# Altium footprint library BGA (1.27mm Pitch, Square4).PcbLib: 21 footprints (part 3 of 6)
Each footprint in its own frame and in the unit in brackets; x right, y up, seen from the top. Pads: shape width x height; smd on the part's side, far side on the other; paste and mask are expansions set on the pad; w line width, h text height; cw(c..) or ccw(c..) is an arc to the next point about the centre after c.
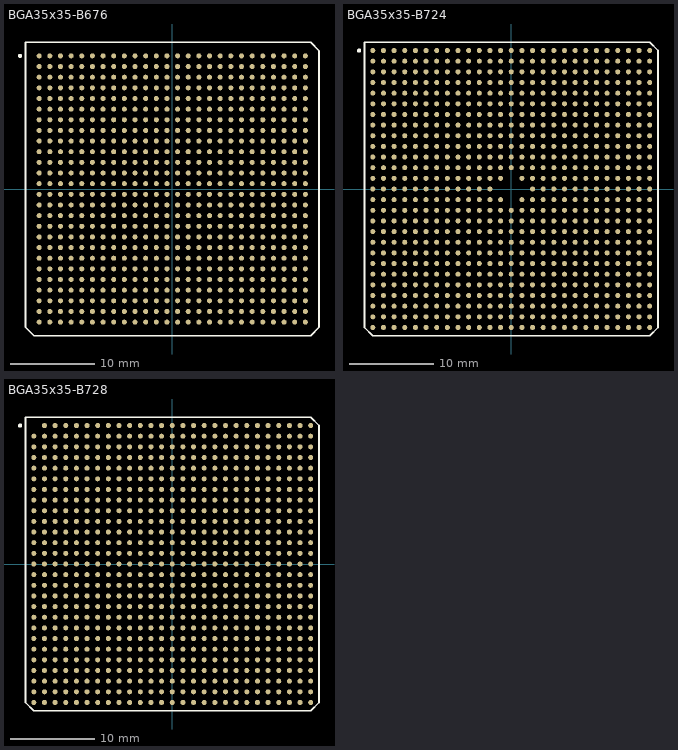
[diagram p2: the footprints below, top view; thin cyan lines are the x and y axes]

## BGA35x35-B676 [mm] "BGA; 676 Balls; Body 35 x 35 mm; Pitch 1.27 mm"
height 3.5
pads (676):
  round 0.6 smd: A1(-15.875,15.875) A2(-14.605,15.875) A3(-13.335,15.875) A4(-12.065,15.875) A5(-10.795,15.875) A6(-9.525,15.875) A7(-8.255,15.875) A8(-6.985,15.875) A9(-5.715,15.875) A10(-4.445,15.875) A11(-3.175,15.875) A12(-1.905,15.875) A13(-0.635,15.875) A14(0.635,15.875) A15(1.905,15.875) A16(3.175,15.875) A17(4.445,15.875) A18(5.715,15.875) A19(6.985,15.875) A20(8.255,15.875) A21(9.525,15.875) A22(10.795,15.875) A23(12.065,15.875) A24(13.335,15.875) A25(14.605,15.875) A26(15.875,15.875) AA1(-15.875,-9.525) AA2(-14.605,-9.525) AA3(-13.335,-9.525) AA4(-12.065,-9.525) AA5(-10.795,-9.525) AA6(-9.525,-9.525) AA7(-8.255,-9.525) AA8(-6.985,-9.525) AA9(-5.715,-9.525) AA10(-4.445,-9.525) AA11(-3.175,-9.525) AA12(-1.905,-9.525) AA13(-0.635,-9.525) AA14(0.635,-9.525) AA15(1.905,-9.525) AA16(3.175,-9.525) AA17(4.445,-9.525) AA18(5.715,-9.525) AA19(6.985,-9.525) AA20(8.255,-9.525) AA21(9.525,-9.525) AA22(10.795,-9.525) AA23(12.065,-9.525) AA24(13.335,-9.525) AA25(14.605,-9.525) AA26(15.875,-9.525) AB1(-15.875,-10.795) AB2(-14.605,-10.795) AB3(-13.335,-10.795) AB4(-12.065,-10.795) AB5(-10.795,-10.795) AB6(-9.525,-10.795) AB7(-8.255,-10.795) AB8(-6.985,-10.795) AB9(-5.715,-10.795) AB10(-4.445,-10.795) AB11(-3.175,-10.795) AB12(-1.905,-10.795) AB13(-0.635,-10.795) AB14(0.635,-10.795) AB15(1.905,-10.795) AB16(3.175,-10.795) AB17(4.445,-10.795) AB18(5.715,-10.795) AB19(6.985,-10.795) AB20(8.255,-10.795) AB21(9.525,-10.795) AB22(10.795,-10.795) AB23(12.065,-10.795) AB24(13.335,-10.795) AB25(14.605,-10.795) AB26(15.875,-10.795) AC1(-15.875,-12.065) AC2(-14.605,-12.065) AC3(-13.335,-12.065) AC4(-12.065,-12.065) AC5(-10.795,-12.065) AC6(-9.525,-12.065) AC7(-8.255,-12.065) AC8(-6.985,-12.065) AC9(-5.715,-12.065) AC10(-4.445,-12.065) AC11(-3.175,-12.065) AC12(-1.905,-12.065) AC13(-0.635,-12.065) AC14(0.635,-12.065) AC15(1.905,-12.065) AC16(3.175,-12.065) AC17(4.445,-12.065) AC18(5.715,-12.065) AC19(6.985,-12.065) AC20(8.255,-12.065) AC21(9.525,-12.065) AC22(10.795,-12.065) AC23(12.065,-12.065) AC24(13.335,-12.065) AC25(14.605,-12.065) AC26(15.875,-12.065) AD1(-15.875,-13.335) AD2(-14.605,-13.335) AD3(-13.335,-13.335) AD4(-12.065,-13.335) AD5(-10.795,-13.335) AD6(-9.525,-13.335) AD7(-8.255,-13.335) AD8(-6.985,-13.335) AD9(-5.715,-13.335) AD10(-4.445,-13.335) AD11(-3.175,-13.335) AD12(-1.905,-13.335) AD13(-0.635,-13.335) AD14(0.635,-13.335) AD15(1.905,-13.335) AD16(3.175,-13.335) AD17(4.445,-13.335) AD18(5.715,-13.335) AD19(6.985,-13.335) AD20(8.255,-13.335) AD21(9.525,-13.335) AD22(10.795,-13.335) AD23(12.065,-13.335) AD24(13.335,-13.335) AD25(14.605,-13.335) AD26(15.875,-13.335) AE1(-15.875,-14.605) AE2(-14.605,-14.605) AE3(-13.335,-14.605) AE4(-12.065,-14.605) AE5(-10.795,-14.605) AE6(-9.525,-14.605) AE7(-8.255,-14.605) AE8(-6.985,-14.605) AE9(-5.715,-14.605) AE10(-4.445,-14.605) AE11(-3.175,-14.605) AE12(-1.905,-14.605) AE13(-0.635,-14.605) AE14(0.635,-14.605) AE15(1.905,-14.605) AE16(3.175,-14.605) AE17(4.445,-14.605) AE18(5.715,-14.605) AE19(6.985,-14.605) AE20(8.255,-14.605) AE21(9.525,-14.605) AE22(10.795,-14.605) AE23(12.065,-14.605) AE24(13.335,-14.605) AE25(14.605,-14.605) AE26(15.875,-14.605) AF1(-15.875,-15.875) AF2(-14.605,-15.875) AF3(-13.335,-15.875) AF4(-12.065,-15.875) AF5(-10.795,-15.875) AF6(-9.525,-15.875) AF7(-8.255,-15.875) AF8(-6.985,-15.875) AF9(-5.715,-15.875) AF10(-4.445,-15.875) AF11(-3.175,-15.875) AF12(-1.905,-15.875) AF13(-0.635,-15.875) AF14(0.635,-15.875) AF15(1.905,-15.875) AF16(3.175,-15.875) AF17(4.445,-15.875) AF18(5.715,-15.875) AF19(6.985,-15.875) AF20(8.255,-15.875) AF21(9.525,-15.875) AF22(10.795,-15.875) AF23(12.065,-15.875) AF24(13.335,-15.875) AF25(14.605,-15.875) AF26(15.875,-15.875) B1(-15.875,14.605) B2(-14.605,14.605) B3(-13.335,14.605) B4(-12.065,14.605) B5(-10.795,14.605) B6(-9.525,14.605) B7(-8.255,14.605) B8(-6.985,14.605) B9(-5.715,14.605) B10(-4.445,14.605) B11(-3.175,14.605) B12(-1.905,14.605) B13(-0.635,14.605) B14(0.635,14.605) B15(1.905,14.605) B16(3.175,14.605) B17(4.445,14.605) B18(5.715,14.605) B19(6.985,14.605) B20(8.255,14.605) B21(9.525,14.605) B22(10.795,14.605) B23(12.065,14.605) B24(13.335,14.605) B25(14.605,14.605) B26(15.875,14.605) C1(-15.875,13.335) C2(-14.605,13.335) C3(-13.335,13.335) C4(-12.065,13.335) C5(-10.795,13.335) C6(-9.525,13.335) C7(-8.255,13.335) C8(-6.985,13.335) C9(-5.715,13.335) C10(-4.445,13.335) C11(-3.175,13.335) C12(-1.905,13.335) C13(-0.635,13.335) C14(0.635,13.335) C15(1.905,13.335) C16(3.175,13.335) C17(4.445,13.335) C18(5.715,13.335) C19(6.985,13.335) C20(8.255,13.335) C21(9.525,13.335) C22(10.795,13.335) C23(12.065,13.335) C24(13.335,13.335) C25(14.605,13.335) C26(15.875,13.335) D1(-15.875,12.065) D2(-14.605,12.065) D3(-13.335,12.065) D4(-12.065,12.065) D5(-10.795,12.065) D6(-9.525,12.065) D7(-8.255,12.065) D8(-6.985,12.065) D9(-5.715,12.065) D10(-4.445,12.065) D11(-3.175,12.065) D12(-1.905,12.065) D13(-0.635,12.065) D14(0.635,12.065) D15(1.905,12.065) D16(3.175,12.065) D17(4.445,12.065) D18(5.715,12.065) D19(6.985,12.065) D20(8.255,12.065) D21(9.525,12.065) D22(10.795,12.065) D23(12.065,12.065) D24(13.335,12.065) D25(14.605,12.065) D26(15.875,12.065) E1(-15.875,10.795) E2(-14.605,10.795) E3(-13.335,10.795) E4(-12.065,10.795) E5(-10.795,10.795) E6(-9.525,10.795) E7(-8.255,10.795) E8(-6.985,10.795) E9(-5.715,10.795) E10(-4.445,10.795) E11(-3.175,10.795) E12(-1.905,10.795) E13(-0.635,10.795) E14(0.635,10.795) E15(1.905,10.795) E16(3.175,10.795) E17(4.445,10.795) E18(5.715,10.795) E19(6.985,10.795) E20(8.255,10.795) E21(9.525,10.795) E22(10.795,10.795) E23(12.065,10.795) E24(13.335,10.795) E25(14.605,10.795) E26(15.875,10.795) F1(-15.875,9.525) F2(-14.605,9.525) F3(-13.335,9.525) F4(-12.065,9.525) F5(-10.795,9.525) F6(-9.525,9.525) F7(-8.255,9.525) F8(-6.985,9.525) F9(-5.715,9.525) F10(-4.445,9.525) F11(-3.175,9.525) F12(-1.905,9.525) F13(-0.635,9.525) F14(0.635,9.525) F15(1.905,9.525) F16(3.175,9.525) F17(4.445,9.525) F18(5.715,9.525) F19(6.985,9.525) F20(8.255,9.525) F21(9.525,9.525) F22(10.795,9.525) F23(12.065,9.525) F24(13.335,9.525) F25(14.605,9.525) F26(15.875,9.525) G1(-15.875,8.255) G2(-14.605,8.255) G3(-13.335,8.255) G4(-12.065,8.255) G5(-10.795,8.255) G6(-9.525,8.255) G7(-8.255,8.255) G8(-6.985,8.255) G9(-5.715,8.255) G10(-4.445,8.255) G11(-3.175,8.255) G12(-1.905,8.255) G13(-0.635,8.255) G14(0.635,8.255) G15(1.905,8.255) G16(3.175,8.255) G17(4.445,8.255) G18(5.715,8.255) G19(6.985,8.255) G20(8.255,8.255) G21(9.525,8.255) G22(10.795,8.255) G23(12.065,8.255) G24(13.335,8.255) G25(14.605,8.255) G26(15.875,8.255) H1(-15.875,6.985) H2(-14.605,6.985) H3(-13.335,6.985) H4(-12.065,6.985) H5(-10.795,6.985) H6(-9.525,6.985) H7(-8.255,6.985) H8(-6.985,6.985) H9(-5.715,6.985) H10(-4.445,6.985) H11(-3.175,6.985) H12(-1.905,6.985) H13(-0.635,6.985) H14(0.635,6.985) H15(1.905,6.985) H16(3.175,6.985) H17(4.445,6.985) H18(5.715,6.985) H19(6.985,6.985) H20(8.255,6.985) H21(9.525,6.985) H22(10.795,6.985) H23(12.065,6.985) H24(13.335,6.985) H25(14.605,6.985) H26(15.875,6.985) J1(-15.875,5.715) J2(-14.605,5.715) J3(-13.335,5.715) J4(-12.065,5.715) J5(-10.795,5.715) J6(-9.525,5.715) J7(-8.255,5.715) J8(-6.985,5.715) J9(-5.715,5.715) J10(-4.445,5.715) J11(-3.175,5.715) J12(-1.905,5.715) J13(-0.635,5.715) J14(0.635,5.715) J15(1.905,5.715) J16(3.175,5.715) J17(4.445,5.715) J18(5.715,5.715) J19(6.985,5.715) J20(8.255,5.715) J21(9.525,5.715) J22(10.795,5.715) J23(12.065,5.715) J24(13.335,5.715) J25(14.605,5.715) J26(15.875,5.715) K1(-15.875,4.445) K2(-14.605,4.445) K3(-13.335,4.445) K4(-12.065,4.445) K5(-10.795,4.445) K6(-9.525,4.445) K7(-8.255,4.445) K8(-6.985,4.445) K9(-5.715,4.445) K10(-4.445,4.445) K11(-3.175,4.445) K12(-1.905,4.445) K13(-0.635,4.445) K14(0.635,4.445) K15(1.905,4.445) K16(3.175,4.445) K17(4.445,4.445) K18(5.715,4.445) K19(6.985,4.445) K20(8.255,4.445) K21(9.525,4.445) K22(10.795,4.445) K23(12.065,4.445) K24(13.335,4.445) K25(14.605,4.445) K26(15.875,4.445) L1(-15.875,3.175) L2(-14.605,3.175) L3(-13.335,3.175) L4(-12.065,3.175) L5(-10.795,3.175) L6(-9.525,3.175) L7(-8.255,3.175) L8(-6.985,3.175) L9(-5.715,3.175) L10(-4.445,3.175) L11(-3.175,3.175) L12(-1.905,3.175) L13(-0.635,3.175) L14(0.635,3.175) L15(1.905,3.175) L16(3.175,3.175) L17(4.445,3.175) L18(5.715,3.175) L19(6.985,3.175) L20(8.255,3.175) L21(9.525,3.175) L22(10.795,3.175) L23(12.065,3.175) L24(13.335,3.175) L25(14.605,3.175) L26(15.875,3.175) M1(-15.875,1.905) M2(-14.605,1.905) M3(-13.335,1.905) M4(-12.065,1.905) M5(-10.795,1.905) M6(-9.525,1.905) M7(-8.255,1.905) M8(-6.985,1.905) M9(-5.715,1.905) M10(-4.445,1.905) M11(-3.175,1.905) M12(-1.905,1.905) M13(-0.635,1.905) M14(0.635,1.905) M15(1.905,1.905) M16(3.175,1.905) M17(4.445,1.905) M18(5.715,1.905) M19(6.985,1.905) M20(8.255,1.905) M21(9.525,1.905) M22(10.795,1.905) M23(12.065,1.905) M24(13.335,1.905) M25(14.605,1.905) M26(15.875,1.905) N1(-15.875,0.635) N2(-14.605,0.635) N3(-13.335,0.635) N4(-12.065,0.635) N5(-10.795,0.635) N6(-9.525,0.635) N7(-8.255,0.635) N8(-6.985,0.635) N9(-5.715,0.635) N10(-4.445,0.635) N11(-3.175,0.635) N12(-1.905,0.635) N13(-0.635,0.635) N14(0.635,0.635) N15(1.905,0.635) N16(3.175,0.635) N17(4.445,0.635) N18(5.715,0.635) N19(6.985,0.635) N20(8.255,0.635) N21(9.525,0.635) N22(10.795,0.635) N23(12.065,0.635) N24(13.335,0.635) N25(14.605,0.635) N26(15.875,0.635) P1(-15.875,-0.635) P2(-14.605,-0.635) P3(-13.335,-0.635) P4(-12.065,-0.635) P5(-10.795,-0.635) P6(-9.525,-0.635) P7(-8.255,-0.635) P8(-6.985,-0.635) P9(-5.715,-0.635) P10(-4.445,-0.635) P11(-3.175,-0.635) P12(-1.905,-0.635) P13(-0.635,-0.635) P14(0.635,-0.635) P15(1.905,-0.635) P16(3.175,-0.635) P17(4.445,-0.635) P18(5.715,-0.635) P19(6.985,-0.635) P20(8.255,-0.635) P21(9.525,-0.635) P22(10.795,-0.635) P23(12.065,-0.635) P24(13.335,-0.635) P25(14.605,-0.635) P26(15.875,-0.635) R1(-15.875,-1.905) R2(-14.605,-1.905) R3(-13.335,-1.905) R4(-12.065,-1.905) R5(-10.795,-1.905) R6(-9.525,-1.905) R7(-8.255,-1.905) R8(-6.985,-1.905) R9(-5.715,-1.905) R10(-4.445,-1.905) R11(-3.175,-1.905) R12(-1.905,-1.905) R13(-0.635,-1.905) R14(0.635,-1.905) R15(1.905,-1.905) R16(3.175,-1.905) R17(4.445,-1.905) R18(5.715,-1.905) R19(6.985,-1.905) R20(8.255,-1.905) R21(9.525,-1.905) R22(10.795,-1.905) R23(12.065,-1.905) R24(13.335,-1.905) R25(14.605,-1.905) R26(15.875,-1.905) T1(-15.875,-3.175) T2(-14.605,-3.175) T3(-13.335,-3.175) T4(-12.065,-3.175) T5(-10.795,-3.175) T6(-9.525,-3.175) T7(-8.255,-3.175) T8(-6.985,-3.175) T9(-5.715,-3.175) T10(-4.445,-3.175) T11(-3.175,-3.175) T12(-1.905,-3.175) T13(-0.635,-3.175) T14(0.635,-3.175) T15(1.905,-3.175) T16(3.175,-3.175) T17(4.445,-3.175) T18(5.715,-3.175) T19(6.985,-3.175) T20(8.255,-3.175) T21(9.525,-3.175) T22(10.795,-3.175) T23(12.065,-3.175) T24(13.335,-3.175) T25(14.605,-3.175) T26(15.875,-3.175) U1(-15.875,-4.445) U2(-14.605,-4.445) U3(-13.335,-4.445) U4(-12.065,-4.445) U5(-10.795,-4.445) U6(-9.525,-4.445) U7(-8.255,-4.445) U8(-6.985,-4.445) U9(-5.715,-4.445) U10(-4.445,-4.445) U11(-3.175,-4.445) U12(-1.905,-4.445) U13(-0.635,-4.445) U14(0.635,-4.445) U15(1.905,-4.445) U16(3.175,-4.445) U17(4.445,-4.445) U18(5.715,-4.445) U19(6.985,-4.445) U20(8.255,-4.445) U21(9.525,-4.445) U22(10.795,-4.445) U23(12.065,-4.445) U24(13.335,-4.445) U25(14.605,-4.445) U26(15.875,-4.445) V1(-15.875,-5.715) V2(-14.605,-5.715) V3(-13.335,-5.715) V4(-12.065,-5.715) V5(-10.795,-5.715) V6(-9.525,-5.715) V7(-8.255,-5.715) V8(-6.985,-5.715) V9(-5.715,-5.715) V10(-4.445,-5.715) V11(-3.175,-5.715) V12(-1.905,-5.715) V13(-0.635,-5.715) V14(0.635,-5.715) V15(1.905,-5.715) V16(3.175,-5.715) V17(4.445,-5.715) V18(5.715,-5.715) V19(6.985,-5.715) V20(8.255,-5.715) V21(9.525,-5.715) V22(10.795,-5.715) V23(12.065,-5.715) V24(13.335,-5.715) V25(14.605,-5.715) V26(15.875,-5.715) W1(-15.875,-6.985) W2(-14.605,-6.985) W3(-13.335,-6.985) W4(-12.065,-6.985) W5(-10.795,-6.985) W6(-9.525,-6.985) W7(-8.255,-6.985) W8(-6.985,-6.985) W9(-5.715,-6.985) W10(-4.445,-6.985) W11(-3.175,-6.985) W12(-1.905,-6.985) W13(-0.635,-6.985) W14(0.635,-6.985) W15(1.905,-6.985) W16(3.175,-6.985) W17(4.445,-6.985) W18(5.715,-6.985) W19(6.985,-6.985) W20(8.255,-6.985) W21(9.525,-6.985) W22(10.795,-6.985) W23(12.065,-6.985) W24(13.335,-6.985) W25(14.605,-6.985) W26(15.875,-6.985) Y1(-15.875,-8.255) Y2(-14.605,-8.255) Y3(-13.335,-8.255) Y4(-12.065,-8.255) Y5(-10.795,-8.255) Y6(-9.525,-8.255) Y7(-8.255,-8.255) Y8(-6.985,-8.255) Y9(-5.715,-8.255) Y10(-4.445,-8.255) Y11(-3.175,-8.255) Y12(-1.905,-8.255) Y13(-0.635,-8.255) Y14(0.635,-8.255) Y15(1.905,-8.255) Y16(3.175,-8.255) Y17(4.445,-8.255) Y18(5.715,-8.255) Y19(6.985,-8.255) Y20(8.255,-8.255) Y21(9.525,-8.255) Y22(10.795,-8.255) Y23(12.065,-8.255) Y24(13.335,-8.255) Y25(14.605,-8.255) Y26(15.875,-8.255)
Top Overlay:
  circle w0.25: c-18.155,15.875 r0.125
  lines w0.2: -17.5,-16.5 -16.5,-17.5 16.5,-17.5 17.5,-16.5 17.5,16.5 16.5,17.5 -17.5,17.5 -17.5,-16.5

## BGA35x35-B724 [mm] "724-Pin Thermally Enhanced Ball-Grid Array (BGA) Cavity Up"
height 3.5
pads (724):
  round 0.6 smd: A1(-16.51,16.51) A2(-15.24,16.51) A3(-13.97,16.51) A4(-12.7,16.51) A5(-11.43,16.51) A6(-10.16,16.51) A7(-8.89,16.51) A8(-7.62,16.51) A9(-6.35,16.51) A10(-5.08,16.51) A11(-3.81,16.51) A12(-2.54,16.51) A13(-1.27,16.51) A14(0,16.51) A15(1.27,16.51) A16(2.54,16.51) A17(3.81,16.51) A18(5.08,16.51) A19(6.35,16.51) A20(7.62,16.51) A21(8.89,16.51) A22(10.16,16.51) A23(11.43,16.51) A24(12.7,16.51) A25(13.97,16.51) A26(15.24,16.51) A27(16.51,16.51) AA1(-16.51,-8.89) AA2(-15.24,-8.89) AA3(-13.97,-8.89) AA4(-12.7,-8.89) AA5(-11.43,-8.89) AA6(-10.16,-8.89) AA7(-8.89,-8.89) AA8(-7.62,-8.89) AA9(-6.35,-8.89) AA10(-5.08,-8.89) AA11(-3.81,-8.89) AA12(-2.54,-8.89) AA13(-1.27,-8.89) AA14(0,-8.89) AA15(1.27,-8.89) AA16(2.54,-8.89) AA17(3.81,-8.89) AA18(5.08,-8.89) AA19(6.35,-8.89) AA20(7.62,-8.89) AA21(8.89,-8.89) AA22(10.16,-8.89) AA23(11.43,-8.89) AA24(12.7,-8.89) AA25(13.97,-8.89) AA26(15.24,-8.89) AA27(16.51,-8.89) AB1(-16.51,-10.16) AB2(-15.24,-10.16) AB3(-13.97,-10.16) AB4(-12.7,-10.16) AB5(-11.43,-10.16) AB6(-10.16,-10.16) AB7(-8.89,-10.16) AB8(-7.62,-10.16) AB9(-6.35,-10.16) AB10(-5.08,-10.16) AB11(-3.81,-10.16) AB12(-2.54,-10.16) AB13(-1.27,-10.16) AB14(0,-10.16) AB15(1.27,-10.16) AB16(2.54,-10.16) AB17(3.81,-10.16) AB18(5.08,-10.16) AB19(6.35,-10.16) AB20(7.62,-10.16) AB21(8.89,-10.16) AB22(10.16,-10.16) AB23(11.43,-10.16) AB24(12.7,-10.16) AB25(13.97,-10.16) AB26(15.24,-10.16) AB27(16.51,-10.16) AC1(-16.51,-11.43) AC2(-15.24,-11.43) AC3(-13.97,-11.43) AC4(-12.7,-11.43) AC5(-11.43,-11.43) AC6(-10.16,-11.43) AC7(-8.89,-11.43) AC8(-7.62,-11.43) AC9(-6.35,-11.43) AC10(-5.08,-11.43) AC11(-3.81,-11.43) AC12(-2.54,-11.43) AC13(-1.27,-11.43) AC14(0,-11.43) AC15(1.27,-11.43) AC16(2.54,-11.43) AC17(3.81,-11.43) AC18(5.08,-11.43) AC19(6.35,-11.43) AC20(7.62,-11.43) AC21(8.89,-11.43) AC22(10.16,-11.43) AC23(11.43,-11.43) AC24(12.7,-11.43) AC25(13.97,-11.43) AC26(15.24,-11.43) AC27(16.51,-11.43) AD1(-16.51,-12.7) AD2(-15.24,-12.7) AD3(-13.97,-12.7) AD4(-12.7,-12.7) AD5(-11.43,-12.7) AD6(-10.16,-12.7) AD7(-8.89,-12.7) AD8(-7.62,-12.7) AD9(-6.35,-12.7) AD10(-5.08,-12.7) AD11(-3.81,-12.7) AD12(-2.54,-12.7) AD13(-1.27,-12.7) AD14(0,-12.7) AD15(1.27,-12.7) AD16(2.54,-12.7) AD17(3.81,-12.7) AD18(5.08,-12.7) AD19(6.35,-12.7) AD20(7.62,-12.7) AD21(8.89,-12.7) AD22(10.16,-12.7) AD23(11.43,-12.7) AD24(12.7,-12.7) AD25(13.97,-12.7) AD26(15.24,-12.7) AD27(16.51,-12.7) AE1(-16.51,-13.97) AE2(-15.24,-13.97) AE3(-13.97,-13.97) AE4(-12.7,-13.97) AE5(-11.43,-13.97) AE6(-10.16,-13.97) AE7(-8.89,-13.97) AE8(-7.62,-13.97) AE9(-6.35,-13.97) AE10(-5.08,-13.97) AE11(-3.81,-13.97) AE12(-2.54,-13.97) AE13(-1.27,-13.97) AE14(0,-13.97) AE15(1.27,-13.97) AE16(2.54,-13.97) AE17(3.81,-13.97) AE18(5.08,-13.97) AE19(6.35,-13.97) AE20(7.62,-13.97) AE21(8.89,-13.97) AE22(10.16,-13.97) AE23(11.43,-13.97) AE24(12.7,-13.97) AE25(13.97,-13.97) AE26(15.24,-13.97) AE27(16.51,-13.97) AF1(-16.51,-15.24) AF2(-15.24,-15.24) AF3(-13.97,-15.24) AF4(-12.7,-15.24) AF5(-11.43,-15.24) AF6(-10.16,-15.24) AF7(-8.89,-15.24) AF8(-7.62,-15.24) AF9(-6.35,-15.24) AF10(-5.08,-15.24) AF11(-3.81,-15.24) AF12(-2.54,-15.24) AF13(-1.27,-15.24) AF14(0,-15.24) AF15(1.27,-15.24) AF16(2.54,-15.24) AF17(3.81,-15.24) AF18(5.08,-15.24) AF19(6.35,-15.24) AF20(7.62,-15.24) AF21(8.89,-15.24) AF22(10.16,-15.24) AF23(11.43,-15.24) AF24(12.7,-15.24) AF25(13.97,-15.24) AF26(15.24,-15.24) AF27(16.51,-15.24) AG1(-16.51,-16.51) AG2(-15.24,-16.51) AG3(-13.97,-16.51) AG4(-12.7,-16.51) AG5(-11.43,-16.51) AG6(-10.16,-16.51) AG7(-8.89,-16.51) AG8(-7.62,-16.51) AG9(-6.35,-16.51) AG10(-5.08,-16.51) AG11(-3.81,-16.51) AG12(-2.54,-16.51) AG13(-1.27,-16.51) AG14(0,-16.51) AG15(1.27,-16.51) AG16(2.54,-16.51) AG17(3.81,-16.51) AG18(5.08,-16.51) AG19(6.35,-16.51) AG20(7.62,-16.51) AG21(8.89,-16.51) AG22(10.16,-16.51) AG23(11.43,-16.51) AG24(12.7,-16.51) AG25(13.97,-16.51) AG26(15.24,-16.51) AG27(16.51,-16.51) B1(-16.51,15.24) B2(-15.24,15.24) B3(-13.97,15.24) B4(-12.7,15.24) B5(-11.43,15.24) B6(-10.16,15.24) B7(-8.89,15.24) B8(-7.62,15.24) B9(-6.35,15.24) B10(-5.08,15.24) B11(-3.81,15.24) B12(-2.54,15.24) B13(-1.27,15.24) B14(0,15.24) B15(1.27,15.24) B16(2.54,15.24) B17(3.81,15.24) B18(5.08,15.24) B19(6.35,15.24) B20(7.62,15.24) B21(8.89,15.24) B22(10.16,15.24) B23(11.43,15.24) B24(12.7,15.24) B25(13.97,15.24) B26(15.24,15.24) B27(16.51,15.24) C1(-16.51,13.97) C2(-15.24,13.97) C3(-13.97,13.97) C4(-12.7,13.97) C5(-11.43,13.97) C6(-10.16,13.97) C7(-8.89,13.97) C8(-7.62,13.97) C9(-6.35,13.97) C10(-5.08,13.97) C11(-3.81,13.97) C12(-2.54,13.97) C13(-1.27,13.97) C14(0,13.97) C15(1.27,13.97) C16(2.54,13.97) C17(3.81,13.97) C18(5.08,13.97) C19(6.35,13.97) C20(7.62,13.97) C21(8.89,13.97) C22(10.16,13.97) C23(11.43,13.97) C24(12.7,13.97) C25(13.97,13.97) C26(15.24,13.97) C27(16.51,13.97) D1(-16.51,12.7) D2(-15.24,12.7) D3(-13.97,12.7) D4(-12.7,12.7) D5(-11.43,12.7) D6(-10.16,12.7) D7(-8.89,12.7) D8(-7.62,12.7) D9(-6.35,12.7) D10(-5.08,12.7) D11(-3.81,12.7) D12(-2.54,12.7) D13(-1.27,12.7) D14(0,12.7) D15(1.27,12.7) D16(2.54,12.7) D17(3.81,12.7) D18(5.08,12.7) D19(6.35,12.7) D20(7.62,12.7) D21(8.89,12.7) D22(10.16,12.7) D23(11.43,12.7) D24(12.7,12.7) D25(13.97,12.7) D26(15.24,12.7) D27(16.51,12.7) E1(-16.51,11.43) E2(-15.24,11.43) E3(-13.97,11.43) E4(-12.7,11.43) E5(-11.43,11.43) E6(-10.16,11.43) E7(-8.89,11.43) E8(-7.62,11.43) E9(-6.35,11.43) E10(-5.08,11.43) E11(-3.81,11.43) E12(-2.54,11.43) E13(-1.27,11.43) E14(0,11.43) E15(1.27,11.43) E16(2.54,11.43) E17(3.81,11.43) E18(5.08,11.43) E19(6.35,11.43) E20(7.62,11.43) E21(8.89,11.43) E22(10.16,11.43) E23(11.43,11.43) E24(12.7,11.43) E25(13.97,11.43) E26(15.24,11.43) E27(16.51,11.43) F1(-16.51,10.16) F2(-15.24,10.16) F3(-13.97,10.16) F4(-12.7,10.16) F5(-11.43,10.16) F6(-10.16,10.16) F7(-8.89,10.16) F8(-7.62,10.16) F9(-6.35,10.16) F10(-5.08,10.16) F11(-3.81,10.16) F12(-2.54,10.16) F13(-1.27,10.16) F14(0,10.16) F15(1.27,10.16) F16(2.54,10.16) F17(3.81,10.16) F18(5.08,10.16) F19(6.35,10.16) F20(7.62,10.16) F21(8.89,10.16) F22(10.16,10.16) F23(11.43,10.16) F24(12.7,10.16) F25(13.97,10.16) F26(15.24,10.16) F27(16.51,10.16) G1(-16.51,8.89) G2(-15.24,8.89) G3(-13.97,8.89) G4(-12.7,8.89) G5(-11.43,8.89) G6(-10.16,8.89) G7(-8.89,8.89) G8(-7.62,8.89) G9(-6.35,8.89) G10(-5.08,8.89) G11(-3.81,8.89) G12(-2.54,8.89) G13(-1.27,8.89) G14(0,8.89) G15(1.27,8.89) G16(2.54,8.89) G17(3.81,8.89) G18(5.08,8.89) G19(6.35,8.89) G20(7.62,8.89) G21(8.89,8.89) G22(10.16,8.89) G23(11.43,8.89) G24(12.7,8.89) G25(13.97,8.89) G26(15.24,8.89) G27(16.51,8.89) H1(-16.51,7.62) H2(-15.24,7.62) H3(-13.97,7.62) H4(-12.7,7.62) H5(-11.43,7.62) H6(-10.16,7.62) H7(-8.89,7.62) H8(-7.62,7.62) H9(-6.35,7.62) H10(-5.08,7.62) H11(-3.81,7.62) H12(-2.54,7.62) H13(-1.27,7.62) H14(0,7.62) H15(1.27,7.62) H16(2.54,7.62) H17(3.81,7.62) H18(5.08,7.62) H19(6.35,7.62) H20(7.62,7.62) H21(8.89,7.62) H22(10.16,7.62) H23(11.43,7.62) H24(12.7,7.62) H25(13.97,7.62) H26(15.24,7.62) H27(16.51,7.62) J1(-16.51,6.35) J2(-15.24,6.35) J3(-13.97,6.35) J4(-12.7,6.35) J5(-11.43,6.35) J6(-10.16,6.35) J7(-8.89,6.35) J8(-7.62,6.35) J9(-6.35,6.35) J10(-5.08,6.35) J11(-3.81,6.35) J12(-2.54,6.35) J13(-1.27,6.35) J14(0,6.35) J15(1.27,6.35) J16(2.54,6.35) J17(3.81,6.35) J18(5.08,6.35) J19(6.35,6.35) J20(7.62,6.35) J21(8.89,6.35) J22(10.16,6.35) J23(11.43,6.35) J24(12.7,6.35) J25(13.97,6.35) J26(15.24,6.35) J27(16.51,6.35) K1(-16.51,5.08) K2(-15.24,5.08) K3(-13.97,5.08) K4(-12.7,5.08) K5(-11.43,5.08) K6(-10.16,5.08) K7(-8.89,5.08) K8(-7.62,5.08) K9(-6.35,5.08) K10(-5.08,5.08) K11(-3.81,5.08) K12(-2.54,5.08) K13(-1.27,5.08) K14(0,5.08) K15(1.27,5.08) K16(2.54,5.08) K17(3.81,5.08) K18(5.08,5.08) K19(6.35,5.08) K20(7.62,5.08) K21(8.89,5.08) K22(10.16,5.08) K23(11.43,5.08) K24(12.7,5.08) K25(13.97,5.08) K26(15.24,5.08) K27(16.51,5.08) L1(-16.51,3.81) L2(-15.24,3.81) L3(-13.97,3.81) L4(-12.7,3.81) L5(-11.43,3.81) L6(-10.16,3.81) L7(-8.89,3.81) L8(-7.62,3.81) L9(-6.35,3.81) L10(-5.08,3.81) L11(-3.81,3.81) L12(-2.54,3.81) L13(-1.27,3.81) L14(0,3.81) L15(1.27,3.81) L16(2.54,3.81) L17(3.81,3.81) L18(5.08,3.81) L19(6.35,3.81) L20(7.62,3.81) L21(8.89,3.81) L22(10.16,3.81) L23(11.43,3.81) L24(12.7,3.81) L25(13.97,3.81) L26(15.24,3.81) L27(16.51,3.81) M1(-16.51,2.54) M2(-15.24,2.54) M3(-13.97,2.54) M4(-12.7,2.54) M5(-11.43,2.54) M6(-10.16,2.54) M7(-8.89,2.54) M8(-7.62,2.54) M9(-6.35,2.54) M10(-5.08,2.54) M11(-3.81,2.54) M12(-2.54,2.54) M13(-1.27,2.54) M14(0,2.54) M15(1.27,2.54) M16(2.54,2.54) M17(3.81,2.54) M18(5.08,2.54) M19(6.35,2.54) M20(7.62,2.54) M21(8.89,2.54) M22(10.16,2.54) M23(11.43,2.54) M24(12.7,2.54) M25(13.97,2.54) M26(15.24,2.54) M27(16.51,2.54) N1(-16.51,1.27) N2(-15.24,1.27) N3(-13.97,1.27) N4(-12.7,1.27) N5(-11.43,1.27) N6(-10.16,1.27) N7(-8.89,1.27) N8(-7.62,1.27) N9(-6.35,1.27) N10(-5.08,1.27) N11(-3.81,1.27) N12(-2.54,1.27) N13(-1.27,1.27) N15(1.27,1.27) N16(2.54,1.27) N17(3.81,1.27) N18(5.08,1.27) N19(6.35,1.27) N20(7.62,1.27) N21(8.89,1.27) N22(10.16,1.27) N23(11.43,1.27) N24(12.7,1.27) N25(13.97,1.27) N26(15.24,1.27) N27(16.51,1.27) P1(-16.51,0) P2(-15.24,0) P3(-13.97,0) P4(-12.7,0) P5(-11.43,0) P6(-10.16,0) P7(-8.89,0) P8(-7.62,0) P9(-6.35,0) P10(-5.08,0) P11(-3.81,0) P12(-2.54,0) P16(2.54,0) P17(3.81,0) P18(5.08,0) P19(6.35,0) P20(7.62,0) P21(8.89,0) P22(10.16,0) P23(11.43,0) P24(12.7,0) P25(13.97,0) P26(15.24,0) P27(16.51,0) R1(-16.51,-1.27) R2(-15.24,-1.27) R3(-13.97,-1.27) R4(-12.7,-1.27) R5(-11.43,-1.27) R6(-10.16,-1.27) R7(-8.89,-1.27) R8(-7.62,-1.27) R9(-6.35,-1.27) R10(-5.08,-1.27) R11(-3.81,-1.27) R12(-2.54,-1.27) R13(-1.27,-1.27) R15(1.27,-1.27) R16(2.54,-1.27) R17(3.81,-1.27) R18(5.08,-1.27) R19(6.35,-1.27) R20(7.62,-1.27) R21(8.89,-1.27) R22(10.16,-1.27) R23(11.43,-1.27) R24(12.7,-1.27) R25(13.97,-1.27) R26(15.24,-1.27) R27(16.51,-1.27) T1(-16.51,-2.54) T2(-15.24,-2.54) T3(-13.97,-2.54) T4(-12.7,-2.54) T5(-11.43,-2.54) T6(-10.16,-2.54) T7(-8.89,-2.54) T8(-7.62,-2.54) T9(-6.35,-2.54) T10(-5.08,-2.54) T11(-3.81,-2.54) T12(-2.54,-2.54) T13(-1.27,-2.54) T14(0,-2.54) T15(1.27,-2.54) T16(2.54,-2.54) T17(3.81,-2.54) T18(5.08,-2.54) T19(6.35,-2.54) T20(7.62,-2.54) T21(8.89,-2.54) T22(10.16,-2.54) T23(11.43,-2.54) T24(12.7,-2.54) T25(13.97,-2.54) T26(15.24,-2.54) T27(16.51,-2.54) U1(-16.51,-3.81) U2(-15.24,-3.81) U3(-13.97,-3.81) U4(-12.7,-3.81) U5(-11.43,-3.81) U6(-10.16,-3.81) U7(-8.89,-3.81) U8(-7.62,-3.81) U9(-6.35,-3.81) U10(-5.08,-3.81) U11(-3.81,-3.81) U12(-2.54,-3.81) U13(-1.27,-3.81) U14(0,-3.81) U15(1.27,-3.81) U16(2.54,-3.81) U17(3.81,-3.81) U18(5.08,-3.81) U19(6.35,-3.81) U20(7.62,-3.81) U21(8.89,-3.81) U22(10.16,-3.81) U23(11.43,-3.81) U24(12.7,-3.81) U25(13.97,-3.81) U26(15.24,-3.81) U27(16.51,-3.81) V1(-16.51,-5.08) V2(-15.24,-5.08) V3(-13.97,-5.08) V4(-12.7,-5.08) V5(-11.43,-5.08) V6(-10.16,-5.08) V7(-8.89,-5.08) V8(-7.62,-5.08) V9(-6.35,-5.08) V10(-5.08,-5.08) V11(-3.81,-5.08) V12(-2.54,-5.08) V13(-1.27,-5.08) V14(0,-5.08) V15(1.27,-5.08) V16(2.54,-5.08) V17(3.81,-5.08) V18(5.08,-5.08) V19(6.35,-5.08) V20(7.62,-5.08) V21(8.89,-5.08) V22(10.16,-5.08) V23(11.43,-5.08) V24(12.7,-5.08) V25(13.97,-5.08) V26(15.24,-5.08) V27(16.51,-5.08) W1(-16.51,-6.35) W2(-15.24,-6.35) W3(-13.97,-6.35) W4(-12.7,-6.35) W5(-11.43,-6.35) W6(-10.16,-6.35) W7(-8.89,-6.35) W8(-7.62,-6.35) W9(-6.35,-6.35) W10(-5.08,-6.35) W11(-3.81,-6.35) W12(-2.54,-6.35) W13(-1.27,-6.35) W14(0,-6.35) W15(1.27,-6.35) W16(2.54,-6.35) W17(3.81,-6.35) W18(5.08,-6.35) W19(6.35,-6.35) W20(7.62,-6.35) W21(8.89,-6.35) W22(10.16,-6.35) W23(11.43,-6.35) W24(12.7,-6.35) W25(13.97,-6.35) W26(15.24,-6.35) W27(16.51,-6.35) Y1(-16.51,-7.62) Y2(-15.24,-7.62) Y3(-13.97,-7.62) Y4(-12.7,-7.62) Y5(-11.43,-7.62) Y6(-10.16,-7.62) Y7(-8.89,-7.62) Y8(-7.62,-7.62) Y9(-6.35,-7.62) Y10(-5.08,-7.62) Y11(-3.81,-7.62) Y12(-2.54,-7.62) Y13(-1.27,-7.62) Y14(0,-7.62) Y15(1.27,-7.62) Y16(2.54,-7.62) Y17(3.81,-7.62) Y18(5.08,-7.62) Y19(6.35,-7.62) Y20(7.62,-7.62) Y21(8.89,-7.62) Y22(10.16,-7.62) Y23(11.43,-7.62) Y24(12.7,-7.62) Y25(13.97,-7.62) Y26(15.24,-7.62) Y27(16.51,-7.62)
Top Overlay:
  circle w0.25: c-18.15,16.51 r0.125
  lines w0.2: -17.5,-16.51 -16.51,-17.5 16.51,-17.5 17.5,-16.51 17.5,16.51 16.51,17.5 -17.5,17.5 -17.5,-16.51

## BGA35x35-B728 [mm] "728-Ball Plastic Ball Grid Array (BG728)"
height 2.6
pads (728):
  round 0.6 smd: A2(-15.24,16.51) A3(-13.97,16.51) A4(-12.7,16.51) A5(-11.43,16.51) A6(-10.16,16.51) A7(-8.89,16.51) A8(-7.62,16.51) A9(-6.35,16.51) A10(-5.08,16.51) A11(-3.81,16.51) A12(-2.54,16.51) A13(-1.27,16.51) A14(0,16.51) A15(1.27,16.51) A16(2.54,16.51) A17(3.81,16.51) A18(5.08,16.51) A19(6.35,16.51) A20(7.62,16.51) A21(8.89,16.51) A22(10.16,16.51) A23(11.43,16.51) A24(12.7,16.51) A25(13.97,16.51) A26(15.24,16.51) A27(16.51,16.51) AA1(-16.51,-8.89) AA2(-15.24,-8.89) AA3(-13.97,-8.89) AA4(-12.7,-8.89) AA5(-11.43,-8.89) AA6(-10.16,-8.89) AA7(-8.89,-8.89) AA8(-7.62,-8.89) AA9(-6.35,-8.89) AA10(-5.08,-8.89) AA11(-3.81,-8.89) AA12(-2.54,-8.89) AA13(-1.27,-8.89) AA14(0,-8.89) AA15(1.27,-8.89) AA16(2.54,-8.89) AA17(3.81,-8.89) AA18(5.08,-8.89) AA19(6.35,-8.89) AA20(7.62,-8.89) AA21(8.89,-8.89) AA22(10.16,-8.89) AA23(11.43,-8.89) AA24(12.7,-8.89) AA25(13.97,-8.89) AA26(15.24,-8.89) AA27(16.51,-8.89) AB1(-16.51,-10.16) AB2(-15.24,-10.16) AB3(-13.97,-10.16) AB4(-12.7,-10.16) AB5(-11.43,-10.16) AB6(-10.16,-10.16) AB7(-8.89,-10.16) AB8(-7.62,-10.16) AB9(-6.35,-10.16) AB10(-5.08,-10.16) AB11(-3.81,-10.16) AB12(-2.54,-10.16) AB13(-1.27,-10.16) AB14(0,-10.16) AB15(1.27,-10.16) AB16(2.54,-10.16) AB17(3.81,-10.16) AB18(5.08,-10.16) AB19(6.35,-10.16) AB20(7.62,-10.16) AB21(8.89,-10.16) AB22(10.16,-10.16) AB23(11.43,-10.16) AB24(12.7,-10.16) AB25(13.97,-10.16) AB26(15.24,-10.16) AB27(16.51,-10.16) AC1(-16.51,-11.43) AC2(-15.24,-11.43) AC3(-13.97,-11.43) AC4(-12.7,-11.43) AC5(-11.43,-11.43) AC6(-10.16,-11.43) AC7(-8.89,-11.43) AC8(-7.62,-11.43) AC9(-6.35,-11.43) AC10(-5.08,-11.43) AC11(-3.81,-11.43) AC12(-2.54,-11.43) AC13(-1.27,-11.43) AC14(0,-11.43) AC15(1.27,-11.43) AC16(2.54,-11.43) AC17(3.81,-11.43) AC18(5.08,-11.43) AC19(6.35,-11.43) AC20(7.62,-11.43) AC21(8.89,-11.43) AC22(10.16,-11.43) AC23(11.43,-11.43) AC24(12.7,-11.43) AC25(13.97,-11.43) AC26(15.24,-11.43) AC27(16.51,-11.43) AD1(-16.51,-12.7) AD2(-15.24,-12.7) AD3(-13.97,-12.7) AD4(-12.7,-12.7) AD5(-11.43,-12.7) AD6(-10.16,-12.7) AD7(-8.89,-12.7) AD8(-7.62,-12.7) AD9(-6.35,-12.7) AD10(-5.08,-12.7) AD11(-3.81,-12.7) AD12(-2.54,-12.7) AD13(-1.27,-12.7) AD14(0,-12.7) AD15(1.27,-12.7) AD16(2.54,-12.7) AD17(3.81,-12.7) AD18(5.08,-12.7) AD19(6.35,-12.7) AD20(7.62,-12.7) AD21(8.89,-12.7) AD22(10.16,-12.7) AD23(11.43,-12.7) AD24(12.7,-12.7) AD25(13.97,-12.7) AD26(15.24,-12.7) AD27(16.51,-12.7) AE1(-16.51,-13.97) AE2(-15.24,-13.97) AE3(-13.97,-13.97) AE4(-12.7,-13.97) AE5(-11.43,-13.97) AE6(-10.16,-13.97) AE7(-8.89,-13.97) AE8(-7.62,-13.97) AE9(-6.35,-13.97) AE10(-5.08,-13.97) AE11(-3.81,-13.97) AE12(-2.54,-13.97) AE13(-1.27,-13.97) AE14(0,-13.97) AE15(1.27,-13.97) AE16(2.54,-13.97) AE17(3.81,-13.97) AE18(5.08,-13.97) AE19(6.35,-13.97) AE20(7.62,-13.97) AE21(8.89,-13.97) AE22(10.16,-13.97) AE23(11.43,-13.97) AE24(12.7,-13.97) AE25(13.97,-13.97) AE26(15.24,-13.97) AE27(16.51,-13.97) AF1(-16.51,-15.24) AF2(-15.24,-15.24) AF3(-13.97,-15.24) AF4(-12.7,-15.24) AF5(-11.43,-15.24) AF6(-10.16,-15.24) AF7(-8.89,-15.24) AF8(-7.62,-15.24) AF9(-6.35,-15.24) AF10(-5.08,-15.24) AF11(-3.81,-15.24) AF12(-2.54,-15.24) AF13(-1.27,-15.24) AF14(0,-15.24) AF15(1.27,-15.24) AF16(2.54,-15.24) AF17(3.81,-15.24) AF18(5.08,-15.24) AF19(6.35,-15.24) AF20(7.62,-15.24) AF21(8.89,-15.24) AF22(10.16,-15.24) AF23(11.43,-15.24) AF24(12.7,-15.24) AF25(13.97,-15.24) AF26(15.24,-15.24) AF27(16.51,-15.24) AG1(-16.51,-16.51) AG2(-15.24,-16.51) AG3(-13.97,-16.51) AG4(-12.7,-16.51) AG5(-11.43,-16.51) AG6(-10.16,-16.51) AG7(-8.89,-16.51) AG8(-7.62,-16.51) AG9(-6.35,-16.51) AG10(-5.08,-16.51) AG11(-3.81,-16.51) AG12(-2.54,-16.51) AG13(-1.27,-16.51) AG14(0,-16.51) AG15(1.27,-16.51) AG16(2.54,-16.51) AG17(3.81,-16.51) AG18(5.08,-16.51) AG19(6.35,-16.51) AG20(7.62,-16.51) AG21(8.89,-16.51) AG22(10.16,-16.51) AG23(11.43,-16.51) AG24(12.7,-16.51) AG25(13.97,-16.51) AG26(15.24,-16.51) AG27(16.51,-16.51) B1(-16.51,15.24) B2(-15.24,15.24) B3(-13.97,15.24) B4(-12.7,15.24) B5(-11.43,15.24) B6(-10.16,15.24) B7(-8.89,15.24) B8(-7.62,15.24) B9(-6.35,15.24) B10(-5.08,15.24) B11(-3.81,15.24) B12(-2.54,15.24) B13(-1.27,15.24) B14(0,15.24) B15(1.27,15.24) B16(2.54,15.24) B17(3.81,15.24) B18(5.08,15.24) B19(6.35,15.24) B20(7.62,15.24) B21(8.89,15.24) B22(10.16,15.24) B23(11.43,15.24) B24(12.7,15.24) B25(13.97,15.24) B26(15.24,15.24) B27(16.51,15.24) C1(-16.51,13.97) C2(-15.24,13.97) C3(-13.97,13.97) C4(-12.7,13.97) C5(-11.43,13.97) C6(-10.16,13.97) C7(-8.89,13.97) C8(-7.62,13.97) C9(-6.35,13.97) C10(-5.08,13.97) C11(-3.81,13.97) C12(-2.54,13.97) C13(-1.27,13.97) C14(0,13.97) C15(1.27,13.97) C16(2.54,13.97) C17(3.81,13.97) C18(5.08,13.97) C19(6.35,13.97) C20(7.62,13.97) C21(8.89,13.97) C22(10.16,13.97) C23(11.43,13.97) C24(12.7,13.97) C25(13.97,13.97) C26(15.24,13.97) C27(16.51,13.97) D1(-16.51,12.7) D2(-15.24,12.7) D3(-13.97,12.7) D4(-12.7,12.7) D5(-11.43,12.7) D6(-10.16,12.7) D7(-8.89,12.7) D8(-7.62,12.7) D9(-6.35,12.7) D10(-5.08,12.7) D11(-3.81,12.7) D12(-2.54,12.7) D13(-1.27,12.7) D14(0,12.7) D15(1.27,12.7) D16(2.54,12.7) D17(3.81,12.7) D18(5.08,12.7) D19(6.35,12.7) D20(7.62,12.7) D21(8.89,12.7) D22(10.16,12.7) D23(11.43,12.7) D24(12.7,12.7) D25(13.97,12.7) D26(15.24,12.7) D27(16.51,12.7) E1(-16.51,11.43) E2(-15.24,11.43) E3(-13.97,11.43) E4(-12.7,11.43) E5(-11.43,11.43) E6(-10.16,11.43) E7(-8.89,11.43) E8(-7.62,11.43) E9(-6.35,11.43) E10(-5.08,11.43) E11(-3.81,11.43) E12(-2.54,11.43) E13(-1.27,11.43) E14(0,11.43) E15(1.27,11.43) E16(2.54,11.43) E17(3.81,11.43) E18(5.08,11.43) E19(6.35,11.43) E20(7.62,11.43) E21(8.89,11.43) E22(10.16,11.43) E23(11.43,11.43) E24(12.7,11.43) E25(13.97,11.43) E26(15.24,11.43) E27(16.51,11.43) F1(-16.51,10.16) F2(-15.24,10.16) F3(-13.97,10.16) F4(-12.7,10.16) F5(-11.43,10.16) F6(-10.16,10.16) F7(-8.89,10.16) F8(-7.62,10.16) F9(-6.35,10.16) F10(-5.08,10.16) F11(-3.81,10.16) F12(-2.54,10.16) F13(-1.27,10.16) F14(0,10.16) F15(1.27,10.16) F16(2.54,10.16) F17(3.81,10.16) F18(5.08,10.16) F19(6.35,10.16) F20(7.62,10.16) F21(8.89,10.16) F22(10.16,10.16) F23(11.43,10.16) F24(12.7,10.16) F25(13.97,10.16) F26(15.24,10.16) F27(16.51,10.16) G1(-16.51,8.89) G2(-15.24,8.89) G3(-13.97,8.89) G4(-12.7,8.89) G5(-11.43,8.89) G6(-10.16,8.89) G7(-8.89,8.89) G8(-7.62,8.89) G9(-6.35,8.89) G10(-5.08,8.89) G11(-3.81,8.89) G12(-2.54,8.89) G13(-1.27,8.89) G14(0,8.89) G15(1.27,8.89) G16(2.54,8.89) G17(3.81,8.89) G18(5.08,8.89) G19(6.35,8.89) G20(7.62,8.89) G21(8.89,8.89) G22(10.16,8.89) G23(11.43,8.89) G24(12.7,8.89) G25(13.97,8.89) G26(15.24,8.89) G27(16.51,8.89) H1(-16.51,7.62) H2(-15.24,7.62) H3(-13.97,7.62) H4(-12.7,7.62) H5(-11.43,7.62) H6(-10.16,7.62) H7(-8.89,7.62) H8(-7.62,7.62) H9(-6.35,7.62) H10(-5.08,7.62) H11(-3.81,7.62) H12(-2.54,7.62) H13(-1.27,7.62) H14(0,7.62) H15(1.27,7.62) H16(2.54,7.62) H17(3.81,7.62) H18(5.08,7.62) H19(6.35,7.62) H20(7.62,7.62) H21(8.89,7.62) H22(10.16,7.62) H23(11.43,7.62) H24(12.7,7.62) H25(13.97,7.62) H26(15.24,7.62) H27(16.51,7.62) J1(-16.51,6.35) J2(-15.24,6.35) J3(-13.97,6.35) J4(-12.7,6.35) J5(-11.43,6.35) J6(-10.16,6.35) J7(-8.89,6.35) J8(-7.62,6.35) J9(-6.35,6.35) J10(-5.08,6.35) J11(-3.81,6.35) J12(-2.54,6.35) J13(-1.27,6.35) J14(0,6.35) J15(1.27,6.35) J16(2.54,6.35) J17(3.81,6.35) J18(5.08,6.35) J19(6.35,6.35) J20(7.62,6.35) J21(8.89,6.35) J22(10.16,6.35) J23(11.43,6.35) J24(12.7,6.35) J25(13.97,6.35) J26(15.24,6.35) J27(16.51,6.35) K1(-16.51,5.08) K2(-15.24,5.08) K3(-13.97,5.08) K4(-12.7,5.08) K5(-11.43,5.08) K6(-10.16,5.08) K7(-8.89,5.08) K8(-7.62,5.08) K9(-6.35,5.08) K10(-5.08,5.08) K11(-3.81,5.08) K12(-2.54,5.08) K13(-1.27,5.08) K14(0,5.08) K15(1.27,5.08) K16(2.54,5.08) K17(3.81,5.08) K18(5.08,5.08) K19(6.35,5.08) K20(7.62,5.08) K21(8.89,5.08) K22(10.16,5.08) K23(11.43,5.08) K24(12.7,5.08) K25(13.97,5.08) K26(15.24,5.08) K27(16.51,5.08) L1(-16.51,3.81) L2(-15.24,3.81) L3(-13.97,3.81) L4(-12.7,3.81) L5(-11.43,3.81) L6(-10.16,3.81) L7(-8.89,3.81) L8(-7.62,3.81) L9(-6.35,3.81) L10(-5.08,3.81) L11(-3.81,3.81) L12(-2.54,3.81) L13(-1.27,3.81) L14(0,3.81) L15(1.27,3.81) L16(2.54,3.81) L17(3.81,3.81) L18(5.08,3.81) L19(6.35,3.81) L20(7.62,3.81) L21(8.89,3.81) L22(10.16,3.81) L23(11.43,3.81) L24(12.7,3.81) L25(13.97,3.81) L26(15.24,3.81) L27(16.51,3.81) M1(-16.51,2.54) M2(-15.24,2.54) M3(-13.97,2.54) M4(-12.7,2.54) M5(-11.43,2.54) M6(-10.16,2.54) M7(-8.89,2.54) M8(-7.62,2.54) M9(-6.35,2.54) M10(-5.08,2.54) M11(-3.81,2.54) M12(-2.54,2.54) M13(-1.27,2.54) M14(0,2.54) M15(1.27,2.54) M16(2.54,2.54) M17(3.81,2.54) M18(5.08,2.54) M19(6.35,2.54) M20(7.62,2.54) M21(8.89,2.54) M22(10.16,2.54) M23(11.43,2.54) M24(12.7,2.54) M25(13.97,2.54) M26(15.24,2.54) M27(16.51,2.54) N1(-16.51,1.27) N2(-15.24,1.27) N3(-13.97,1.27) N4(-12.7,1.27) N5(-11.43,1.27) N6(-10.16,1.27) N7(-8.89,1.27) N8(-7.62,1.27) N9(-6.35,1.27) N10(-5.08,1.27) N11(-3.81,1.27) N12(-2.54,1.27) N13(-1.27,1.27) N14(0,1.27) N15(1.27,1.27) N16(2.54,1.27) N17(3.81,1.27) N18(5.08,1.27) N19(6.35,1.27) N20(7.62,1.27) N21(8.89,1.27) N22(10.16,1.27) N23(11.43,1.27) N24(12.7,1.27) N25(13.97,1.27) N26(15.24,1.27) N27(16.51,1.27) P1(-16.51,0) P2(-15.24,0) P3(-13.97,0) P4(-12.7,0) P5(-11.43,0) P6(-10.16,0) P7(-8.89,0) P8(-7.62,0) P9(-6.35,0) P10(-5.08,0) P11(-3.81,0) P12(-2.54,0) P13(-1.27,0) P14(0,0) P15(1.27,0) P16(2.54,0) P17(3.81,0) P18(5.08,0) P19(6.35,0) P20(7.62,0) P21(8.89,0) P22(10.16,0) P23(11.43,0) P24(12.7,0) P25(13.97,0) P26(15.24,0) P27(16.51,0) R1(-16.51,-1.27) R2(-15.24,-1.27) R3(-13.97,-1.27) R4(-12.7,-1.27) R5(-11.43,-1.27) R6(-10.16,-1.27) R7(-8.89,-1.27) R8(-7.62,-1.27) R9(-6.35,-1.27) R10(-5.08,-1.27) R11(-3.81,-1.27) R12(-2.54,-1.27) R13(-1.27,-1.27) R14(0,-1.27) R15(1.27,-1.27) R16(2.54,-1.27) R17(3.81,-1.27) R18(5.08,-1.27) R19(6.35,-1.27) R20(7.62,-1.27) R21(8.89,-1.27) R22(10.16,-1.27) R23(11.43,-1.27) R24(12.7,-1.27) R25(13.97,-1.27) R26(15.24,-1.27) R27(16.51,-1.27) T1(-16.51,-2.54) T2(-15.24,-2.54) T3(-13.97,-2.54) T4(-12.7,-2.54) T5(-11.43,-2.54) T6(-10.16,-2.54) T7(-8.89,-2.54) T8(-7.62,-2.54) T9(-6.35,-2.54) T10(-5.08,-2.54) T11(-3.81,-2.54) T12(-2.54,-2.54) T13(-1.27,-2.54) T14(0,-2.54) T15(1.27,-2.54) T16(2.54,-2.54) T17(3.81,-2.54) T18(5.08,-2.54) T19(6.35,-2.54) T20(7.62,-2.54) T21(8.89,-2.54) T22(10.16,-2.54) T23(11.43,-2.54) T24(12.7,-2.54) T25(13.97,-2.54) T26(15.24,-2.54) T27(16.51,-2.54) U1(-16.51,-3.81) U2(-15.24,-3.81) U3(-13.97,-3.81) U4(-12.7,-3.81) U5(-11.43,-3.81) U6(-10.16,-3.81) U7(-8.89,-3.81) U8(-7.62,-3.81) U9(-6.35,-3.81) U10(-5.08,-3.81) U11(-3.81,-3.81) U12(-2.54,-3.81) U13(-1.27,-3.81) U14(0,-3.81) U15(1.27,-3.81) U16(2.54,-3.81) U17(3.81,-3.81) U18(5.08,-3.81) U19(6.35,-3.81) U20(7.62,-3.81) U21(8.89,-3.81) U22(10.16,-3.81) U23(11.43,-3.81) U24(12.7,-3.81) U25(13.97,-3.81) U26(15.24,-3.81) U27(16.51,-3.81) V1(-16.51,-5.08) V2(-15.24,-5.08) V3(-13.97,-5.08) V4(-12.7,-5.08) V5(-11.43,-5.08) V6(-10.16,-5.08) V7(-8.89,-5.08) V8(-7.62,-5.08) V9(-6.35,-5.08) V10(-5.08,-5.08) V11(-3.81,-5.08) V12(-2.54,-5.08) V13(-1.27,-5.08) V14(0,-5.08) V15(1.27,-5.08) V16(2.54,-5.08) V17(3.81,-5.08) V18(5.08,-5.08) V19(6.35,-5.08) V20(7.62,-5.08) V21(8.89,-5.08) V22(10.16,-5.08) V23(11.43,-5.08) V24(12.7,-5.08) V25(13.97,-5.08) V26(15.24,-5.08) V27(16.51,-5.08) W1(-16.51,-6.35) W2(-15.24,-6.35) W3(-13.97,-6.35) W4(-12.7,-6.35) W5(-11.43,-6.35) W6(-10.16,-6.35) W7(-8.89,-6.35) W8(-7.62,-6.35) W9(-6.35,-6.35) W10(-5.08,-6.35) W11(-3.81,-6.35) W12(-2.54,-6.35) W13(-1.27,-6.35) W14(0,-6.35) W15(1.27,-6.35) W16(2.54,-6.35) W17(3.81,-6.35) W18(5.08,-6.35) W19(6.35,-6.35) W20(7.62,-6.35) W21(8.89,-6.35) W22(10.16,-6.35) W23(11.43,-6.35) W24(12.7,-6.35) W25(13.97,-6.35) W26(15.24,-6.35) W27(16.51,-6.35) Y1(-16.51,-7.62) Y2(-15.24,-7.62) Y3(-13.97,-7.62) Y4(-12.7,-7.62) Y5(-11.43,-7.62) Y6(-10.16,-7.62) Y7(-8.89,-7.62) Y8(-7.62,-7.62) Y9(-6.35,-7.62) Y10(-5.08,-7.62) Y11(-3.81,-7.62) Y12(-2.54,-7.62) Y13(-1.27,-7.62) Y14(0,-7.62) Y15(1.27,-7.62) Y16(2.54,-7.62) Y17(3.81,-7.62) Y18(5.08,-7.62) Y19(6.35,-7.62) Y20(7.62,-7.62) Y21(8.89,-7.62) Y22(10.16,-7.62) Y23(11.43,-7.62) Y24(12.7,-7.62) Y25(13.97,-7.62) Y26(15.24,-7.62) Y27(16.51,-7.62)
Top Overlay:
  circle w0.25: c-18.15,16.51 r0.125
  lines w0.2: -17.5,-16.51 -17.5,17.5 16.51,17.5 17.5,16.51 17.5,-16.51 16.51,-17.5 -16.51,-17.5 -17.5,-16.51